# EAGLE library part UCC2837_D_8 (library TexasInstruments)
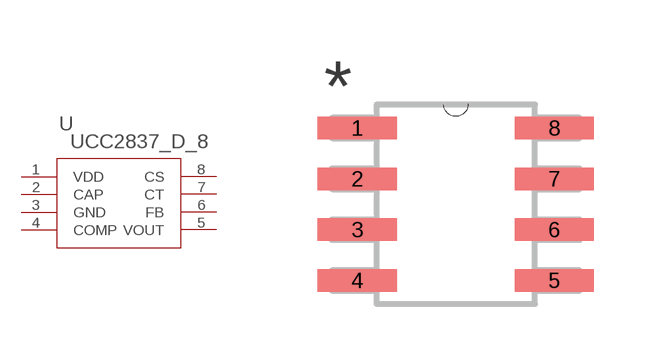
[diagram p5: symbol with the pads of D8; footprint D8]

Designator prefix U

## UCC2837_D_8 (DATASHEETURL: http://www.ti.com/lit/gpn/UCC2837; DESCRIPTION: 8-Pin N-FET Linear Regulator Controller; FAMILY_NAME: LDO CONTROLLER; GENERIC_PART_NUMBER: UCC2837; INDUSTRY_STD_PKG_TYPE: SOIC; MANUFACTURER: Texas Instruments; MANUFACTURER_PART_NUMBER: ucc2837_d_8; PACKAGE_DESIGNATOR: D; PIN_COUNT: 8; VENDOR: Texas Instruments)  [D8]
1  VDD  pwr
2  CAP  pas
3  GND  pwr
4  COMP  pas
5  VOUT  out
6  FB  pas
7  CT  pas
8  CS  pas

## Footprint D8 (pad centres in mm)
smd 1.981 x 0.559: 1 -2.464,1.905; 2 -2.464,0.635; 3 -2.464,-0.635; 4 -2.464,-1.905; 5 2.464,-1.905; 6 2.464,-0.635; 7 2.464,0.635; 8 2.464,1.905